# EAGLE library part 105450-0101 (library epoch)
USB Shielded I/O Receptacle; Type C; Right Angle; Surface Mount; Gold over Nickel
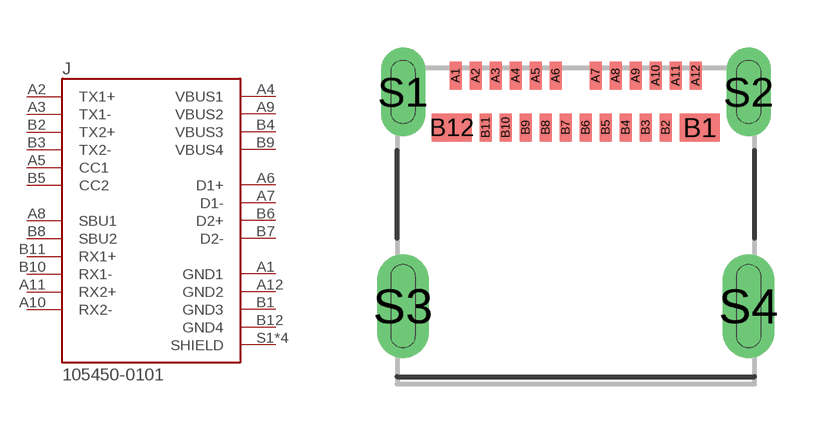
[diagram p4: symbol with the pads of MOLEX_105450-0101; footprint MOLEX_105450-0101]

Designator prefix J

## 105450-0101 (AVAILABILITY: Unavailable; DESCRIPTION: USB - C _Type - C_ USB 3.1 _USB 3.1 Gen 2, Superspeed+_ Receptacle Connector 24 Position Surface Mount, Right Angle; Through Hole; MF: Molex; MP: 105450-0101; PACKAGE: None; PRICE: None)  [MOLEX_105450-0101]
A1  GND1  pas
A2  TX1+  pas
A3  TX1-  pas
A4  VBUS1  pas
A5  CC1  pas
A6  D1+  pas
A7  D1-  pas
A8  SBU1  pas
A9  VBUS2  pas
A10  RX2-  pas
A11  RX2+  pas
A12  GND2  pas
B1  GND3  pas
B2  TX2+  pas
B3  TX2-  pas
B4  VBUS3  pas
B5  CC2  pas
B6  D2+  pas
B7  D2-  pas
B8  SBU2  pas
B9  VBUS4  pas
B10  RX1-  pas
B11  RX1+  pas
B12  GND4  pas
S1  SHIELD  pas
S2  SHIELD  pas
S3  SHIELD  pas
S4  SHIELD  pas

## Footprint MOLEX_105450-0101 (pad centres in mm)
smd 0.3 x 0.7: A1 -3,3.77; A2 -2.5,3.77; A3 -2,3.77; A4 -1.5,3.77; A5 -1,3.77; A6 -0.5,3.77; A7 0.5,3.77; A8 1,3.77; A9 1.5,3.77; A10 2,3.77; A11 2.5,3.77; A12 3,3.77; B2 2.25,2.47; B3 1.75,2.47; B4 1.25,2.47; B5 0.75,2.47; B6 0.25,2.47; B7 -0.25,2.47; B8 -0.75,2.47; B9 -1.25,2.47; B10 -1.75,2.47; B11 -2.25,2.47
smd 1 x 0.7: B1 3.1,2.47; B12 -3.1,2.47
drill 0.6 pad 1.1 long: S1 -4.32,3.36; S2 4.32,3.36
drill 0.6 pad 1.3 long: S3 -4.32,-2; S4 4.32,-2